# Altium footprint library Connector_Samtec_HLE_SMD.PcbLib: 290 footprints (part 3 of 24)
Each footprint in its own frame and in the unit in brackets; x right, y up, seen from the top. Pads: shape width x height; smd on the part's side, far side on the other; paste and mask are expansions set on the pad; w line width, h text height; cw(c..) or ccw(c..) is an arc to the next point about the centre after c.
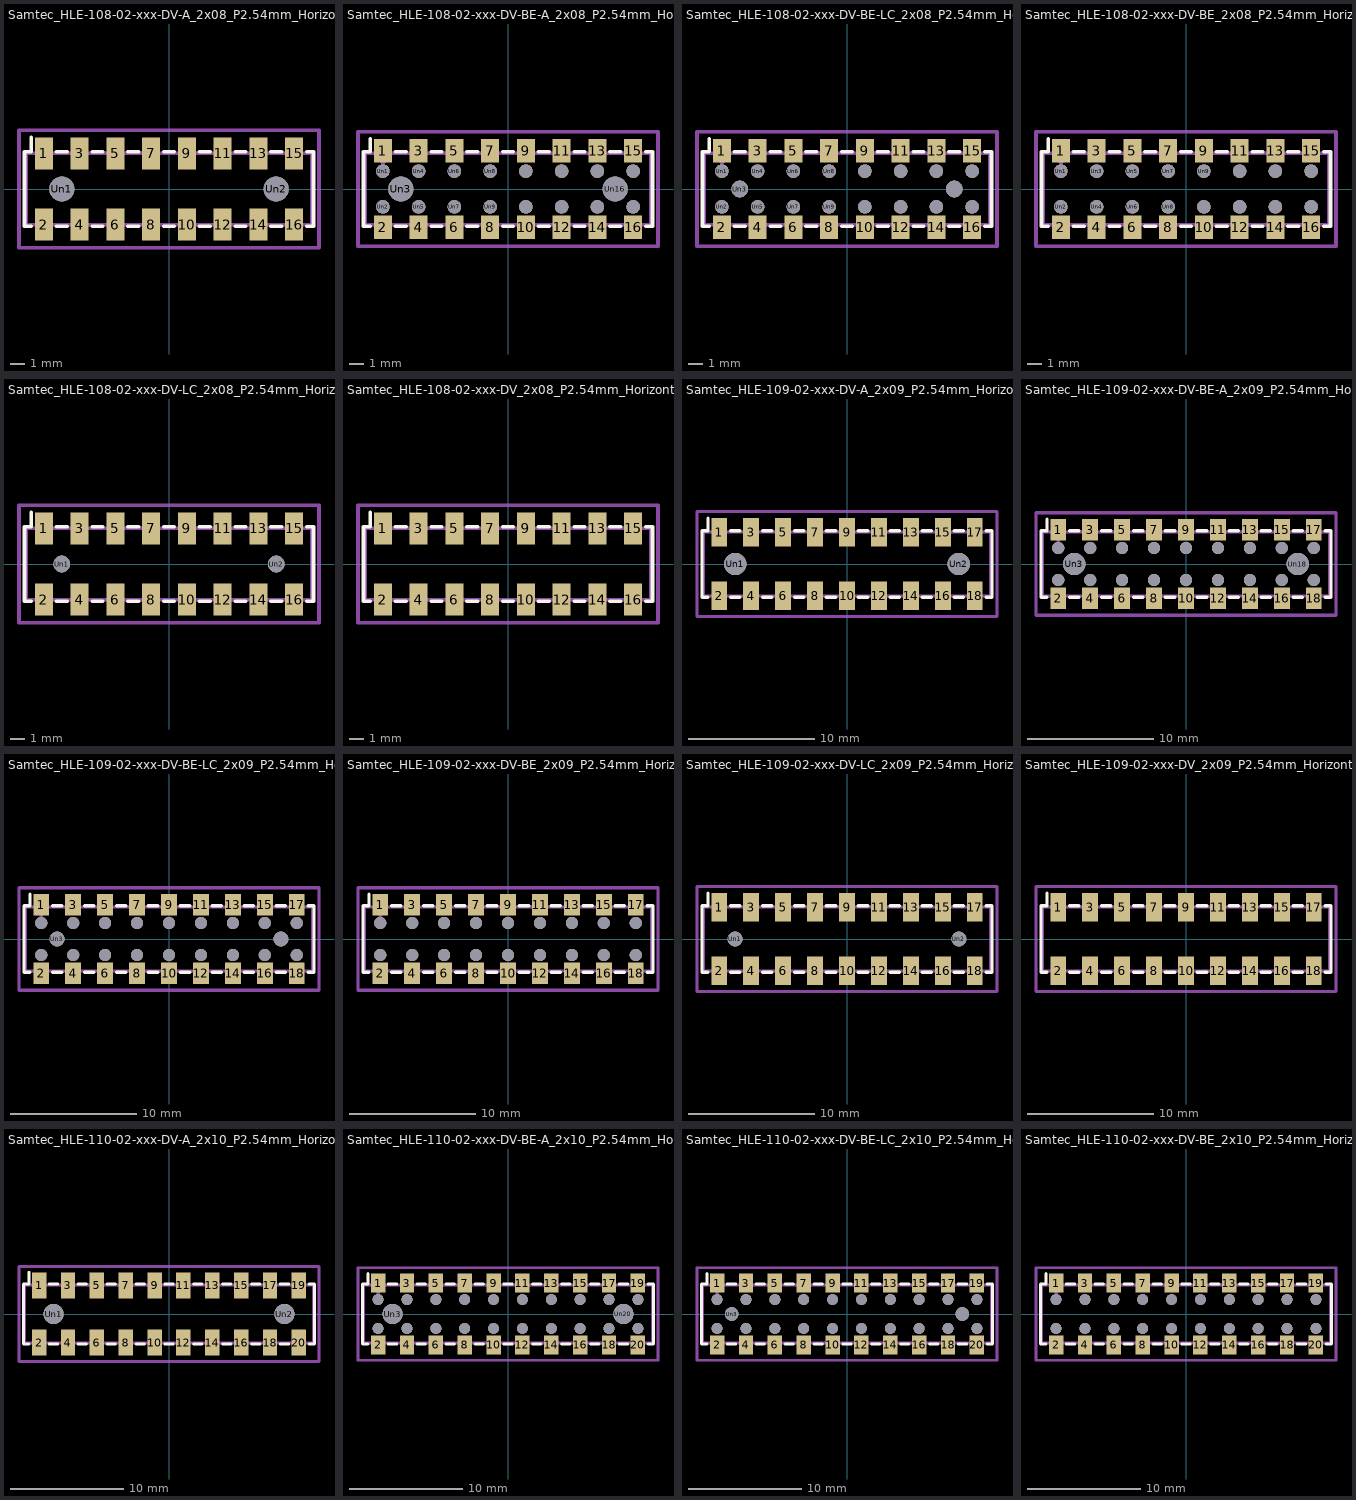
[diagram p2: the footprints below, top view; thin cyan lines are the x and y axes]

## Samtec_HLE-108-02-xxx-DV-A_2x08_P2.54mm_Horizontal [mm]
pads (18):
  rect 1.27x2.29 smd: 1(-8.89,2.525) 2(-8.89,-2.525) 3(-6.35,2.525) 4(-6.35,-2.525) 5(-3.81,2.525) 6(-3.81,-2.525) 7(-1.27,2.525) 8(-1.27,-2.525) 9(1.27,2.525) 10(1.27,-2.525) 11(3.81,2.525) 12(3.81,-2.525) 13(6.35,2.525) 14(6.35,-2.525) 15(8.89,2.525) 16(8.89,-2.525)
  round 1.78 hole 1.78: Un1(-7.62,0) Un2(7.62,0)
F.SilkS:
  lines w0.254: -9.785,-2.65 -10.27,-2.65 -10.27,2.65 -9.785,2.65 -9.785,3.67 ; -7.995,-2.65 -7.245,-2.65 ; -7.995,2.65 -7.245,2.65 ; -5.455,-2.65 -4.705,-2.65 ; -5.455,2.65 -4.705,2.65 ; -2.915,-2.65 -2.165,-2.65 ; -2.915,2.65 -2.165,2.65 ; -0.375,-2.65 0.375,-2.65 ; -0.375,2.65 0.375,2.65 ; 2.165,-2.65 2.915,-2.65 ; 2.165,2.65 2.915,2.65 ; 4.705,-2.65 5.455,-2.65 ; 4.705,2.65 5.455,2.65 ; 7.245,-2.65 7.995,-2.65 ; 7.245,2.65 7.995,2.65 ; 9.785,-2.65 10.27,-2.65 10.27,2.65 9.785,2.65
Top Assembly:
  lines w0.254: -9.39,2.54 -8.89,1.833 -8.39,2.54 ; -10.16,-2.54 10.16,-2.54 10.16,2.54 -10.16,2.54 -10.16,-2.54
  text "'.Designator'" at -4.047,-2.68 h1
Top Courtyard:
  lines w0.254: -10.66,-4.17 10.66,-4.17 10.66,4.17 -10.66,4.17 -10.66,-4.17
Top Designator:
  text ".Designator" at -7.618,-0.508 h1.52

## Samtec_HLE-108-02-xxx-DV-BE-A_2x08_P2.54mm_Horizontal [mm]
pads (34):
  rect 1.27x1.68 smd: 1(-8.89,2.72) 2(-8.89,-2.72) 3(-6.35,2.72) 4(-6.35,-2.72) 5(-3.81,2.72) 6(-3.81,-2.72) 7(-1.27,2.72) 8(-1.27,-2.72) 9(1.27,2.72) 10(1.27,-2.72) 11(3.81,2.72) 12(3.81,-2.72) 13(6.35,2.72) 14(6.35,-2.72) 15(8.89,2.72) 16(8.89,-2.72)
  round 0.97 hole 0.97: Un1(-8.89,1.27) Un2(-8.89,-1.27) Un4(-6.35,1.27) Un5(-6.35,-1.27) Un6(-3.81,1.27) Un7(-3.81,-1.27) Un8(-1.27,1.27) Un9(-1.27,-1.27) Un10(1.27,1.27) Un11(1.27,-1.27) Un12(3.81,1.27) Un13(3.81,-1.27) Un14(6.35,1.27) Un15(6.35,-1.27) Un17(8.89,1.27) Un18(8.89,-1.27)
  round 1.78 hole 1.78: Un3(-7.62,0) Un16(7.62,0)
F.SilkS:
  lines w0.254: -9.785,-2.65 -10.27,-2.65 -10.27,2.65 -9.785,2.65 -9.785,3.56 ; -7.995,-2.65 -7.245,-2.65 ; -7.995,2.65 -7.245,2.65 ; -5.455,-2.65 -4.705,-2.65 ; -5.455,2.65 -4.705,2.65 ; -2.915,-2.65 -2.165,-2.65 ; -2.915,2.65 -2.165,2.65 ; -0.375,-2.65 0.375,-2.65 ; -0.375,2.65 0.375,2.65 ; 2.165,-2.65 2.915,-2.65 ; 2.165,2.65 2.915,2.65 ; 4.705,-2.65 5.455,-2.65 ; 4.705,2.65 5.455,2.65 ; 7.245,-2.65 7.995,-2.65 ; 7.245,2.65 7.995,2.65 ; 9.785,-2.65 10.27,-2.65 10.27,2.65 9.785,2.65
Top Assembly:
  lines w0.254: -9.39,2.54 -8.89,1.833 -8.39,2.54 ; -10.16,-2.54 10.16,-2.54 10.16,2.54 -10.16,2.54 -10.16,-2.54
  text "'.Designator'" at -4.047,-2.68 h1
Top Courtyard:
  lines w0.254: -10.66,-4.07 10.66,-4.07 10.66,4.07 -10.66,4.07 -10.66,-4.07
Top Designator:
  text ".Designator" at -7.618,-0.508 h1.52

## Samtec_HLE-108-02-xxx-DV-BE-LC_2x08_P2.54mm_Horizontal [mm]
pads (34):
  rect 1.27x1.68 smd: 1(-8.89,2.72) 2(-8.89,-2.72) 3(-6.35,2.72) 4(-6.35,-2.72) 5(-3.81,2.72) 6(-3.81,-2.72) 7(-1.27,2.72) 8(-1.27,-2.72) 9(1.27,2.72) 10(1.27,-2.72) 11(3.81,2.72) 12(3.81,-2.72) 13(6.35,2.72) 14(6.35,-2.72) 15(8.89,2.72) 16(8.89,-2.72)
  round 0.97 hole 0.97: Un1(-8.89,1.27) Un2(-8.89,-1.27) Un4(-6.35,1.27) Un5(-6.35,-1.27) Un6(-3.81,1.27) Un7(-3.81,-1.27) Un8(-1.27,1.27) Un9(-1.27,-1.27) Un10(1.27,1.27) Un11(1.27,-1.27) Un12(3.81,1.27) Un13(3.81,-1.27) Un14(6.35,1.27) Un15(6.35,-1.27) Un17(8.89,1.27) Un18(8.89,-1.27)
  round 1.19 hole 1.19: Un3(-7.62,0) Un16(7.62,0)
F.SilkS:
  lines w0.254: -9.785,-2.65 -10.27,-2.65 -10.27,2.65 -9.785,2.65 -9.785,3.56 ; -7.995,-2.65 -7.245,-2.65 ; -7.995,2.65 -7.245,2.65 ; -5.455,-2.65 -4.705,-2.65 ; -5.455,2.65 -4.705,2.65 ; -2.915,-2.65 -2.165,-2.65 ; -2.915,2.65 -2.165,2.65 ; -0.375,-2.65 0.375,-2.65 ; -0.375,2.65 0.375,2.65 ; 2.165,-2.65 2.915,-2.65 ; 2.165,2.65 2.915,2.65 ; 4.705,-2.65 5.455,-2.65 ; 4.705,2.65 5.455,2.65 ; 7.245,-2.65 7.995,-2.65 ; 7.245,2.65 7.995,2.65 ; 9.785,-2.65 10.27,-2.65 10.27,2.65 9.785,2.65
Top Assembly:
  lines w0.254: -9.39,2.54 -8.89,1.833 -8.39,2.54 ; -10.16,-2.54 10.16,-2.54 10.16,2.54 -10.16,2.54 -10.16,-2.54
  text "'.Designator'" at -4.047,-2.68 h1
Top Courtyard:
  lines w0.254: -10.66,-4.07 10.66,-4.07 10.66,4.07 -10.66,4.07 -10.66,-4.07
Top Designator:
  text ".Designator" at -7.618,-0.508 h1.52

## Samtec_HLE-108-02-xxx-DV-BE_2x08_P2.54mm_Horizontal [mm]
pads (32):
  rect 1.27x1.68 smd: 1(-8.89,2.72) 2(-8.89,-2.72) 3(-6.35,2.72) 4(-6.35,-2.72) 5(-3.81,2.72) 6(-3.81,-2.72) 7(-1.27,2.72) 8(-1.27,-2.72) 9(1.27,2.72) 10(1.27,-2.72) 11(3.81,2.72) 12(3.81,-2.72) 13(6.35,2.72) 14(6.35,-2.72) 15(8.89,2.72) 16(8.89,-2.72)
  round 0.97 hole 0.97: Un1(-8.89,1.27) Un2(-8.89,-1.27) Un3(-6.35,1.27) Un4(-6.35,-1.27) Un5(-3.81,1.27) Un6(-3.81,-1.27) Un7(-1.27,1.27) Un8(-1.27,-1.27) Un9(1.27,1.27) Un10(1.27,-1.27) Un11(3.81,1.27) Un12(3.81,-1.27) Un13(6.35,1.27) Un14(6.35,-1.27) Un15(8.89,1.27) Un16(8.89,-1.27)
F.SilkS:
  lines w0.254: -9.785,-2.65 -10.27,-2.65 -10.27,2.65 -9.785,2.65 -9.785,3.56 ; -7.995,-2.65 -7.245,-2.65 ; -7.995,2.65 -7.245,2.65 ; -5.455,-2.65 -4.705,-2.65 ; -5.455,2.65 -4.705,2.65 ; -2.915,-2.65 -2.165,-2.65 ; -2.915,2.65 -2.165,2.65 ; -0.375,-2.65 0.375,-2.65 ; -0.375,2.65 0.375,2.65 ; 2.165,-2.65 2.915,-2.65 ; 2.165,2.65 2.915,2.65 ; 4.705,-2.65 5.455,-2.65 ; 4.705,2.65 5.455,2.65 ; 7.245,-2.65 7.995,-2.65 ; 7.245,2.65 7.995,2.65 ; 9.785,-2.65 10.27,-2.65 10.27,2.65 9.785,2.65
Top Assembly:
  lines w0.254: -9.39,2.54 -8.89,1.833 -8.39,2.54 ; -10.16,-2.54 10.16,-2.54 10.16,2.54 -10.16,2.54 -10.16,-2.54
  text "'.Designator'" at -4.047,-2.68 h1
Top Courtyard:
  lines w0.254: -10.66,-4.07 10.66,-4.07 10.66,4.07 -10.66,4.07 -10.66,-4.07
Top Designator:
  text ".Designator" at -7.618,-0.508 h1.52

## Samtec_HLE-108-02-xxx-DV-LC_2x08_P2.54mm_Horizontal [mm]
pads (18):
  rect 1.27x2.29 smd: 1(-8.89,2.525) 2(-8.89,-2.525) 3(-6.35,2.525) 4(-6.35,-2.525) 5(-3.81,2.525) 6(-3.81,-2.525) 7(-1.27,2.525) 8(-1.27,-2.525) 9(1.27,2.525) 10(1.27,-2.525) 11(3.81,2.525) 12(3.81,-2.525) 13(6.35,2.525) 14(6.35,-2.525) 15(8.89,2.525) 16(8.89,-2.525)
  round 1.19 hole 1.19: Un1(-7.62,0) Un2(7.62,0)
F.SilkS:
  lines w0.254: -9.785,-2.65 -10.27,-2.65 -10.27,2.65 -9.785,2.65 -9.785,3.67 ; -7.995,-2.65 -7.245,-2.65 ; -7.995,2.65 -7.245,2.65 ; -5.455,-2.65 -4.705,-2.65 ; -5.455,2.65 -4.705,2.65 ; -2.915,-2.65 -2.165,-2.65 ; -2.915,2.65 -2.165,2.65 ; -0.375,-2.65 0.375,-2.65 ; -0.375,2.65 0.375,2.65 ; 2.165,-2.65 2.915,-2.65 ; 2.165,2.65 2.915,2.65 ; 4.705,-2.65 5.455,-2.65 ; 4.705,2.65 5.455,2.65 ; 7.245,-2.65 7.995,-2.65 ; 7.245,2.65 7.995,2.65 ; 9.785,-2.65 10.27,-2.65 10.27,2.65 9.785,2.65
Top Assembly:
  lines w0.254: -9.39,2.54 -8.89,1.833 -8.39,2.54 ; -10.16,-2.54 10.16,-2.54 10.16,2.54 -10.16,2.54 -10.16,-2.54
  text "'.Designator'" at -4.047,-2.68 h1
Top Courtyard:
  lines w0.254: -10.66,-4.17 10.66,-4.17 10.66,4.17 -10.66,4.17 -10.66,-4.17
Top Designator:
  text ".Designator" at -7.618,-0.508 h1.52

## Samtec_HLE-108-02-xxx-DV_2x08_P2.54mm_Horizontal [mm]
pads (16):
  rect 1.27x2.29 smd: 1(-8.89,2.525) 2(-8.89,-2.525) 3(-6.35,2.525) 4(-6.35,-2.525) 5(-3.81,2.525) 6(-3.81,-2.525) 7(-1.27,2.525) 8(-1.27,-2.525) 9(1.27,2.525) 10(1.27,-2.525) 11(3.81,2.525) 12(3.81,-2.525) 13(6.35,2.525) 14(6.35,-2.525) 15(8.89,2.525) 16(8.89,-2.525)
F.SilkS:
  lines w0.254: -9.785,-2.65 -10.27,-2.65 -10.27,2.65 -9.785,2.65 -9.785,3.67 ; -7.995,-2.65 -7.245,-2.65 ; -7.995,2.65 -7.245,2.65 ; -5.455,-2.65 -4.705,-2.65 ; -5.455,2.65 -4.705,2.65 ; -2.915,-2.65 -2.165,-2.65 ; -2.915,2.65 -2.165,2.65 ; -0.375,-2.65 0.375,-2.65 ; -0.375,2.65 0.375,2.65 ; 2.165,-2.65 2.915,-2.65 ; 2.165,2.65 2.915,2.65 ; 4.705,-2.65 5.455,-2.65 ; 4.705,2.65 5.455,2.65 ; 7.245,-2.65 7.995,-2.65 ; 7.245,2.65 7.995,2.65 ; 9.785,-2.65 10.27,-2.65 10.27,2.65 9.785,2.65
Top Assembly:
  lines w0.254: -9.39,2.54 -8.89,1.833 -8.39,2.54 ; -10.16,-2.54 10.16,-2.54 10.16,2.54 -10.16,2.54 -10.16,-2.54
  text "'.Designator'" at -4.047,-2.68 h1
Top Courtyard:
  lines w0.254: -10.66,-4.17 10.66,-4.17 10.66,4.17 -10.66,4.17 -10.66,-4.17
Top Designator:
  text ".Designator" at -7.618,-0.508 h1.52

## Samtec_HLE-109-02-xxx-DV-A_2x09_P2.54mm_Horizontal [mm]
pads (20):
  rect 1.27x2.29 smd: 1(-10.16,2.525) 2(-10.16,-2.525) 3(-7.62,2.525) 4(-7.62,-2.525) 5(-5.08,2.525) 6(-5.08,-2.525) 7(-2.54,2.525) 8(-2.54,-2.525) 9(0,2.525) 10(0,-2.525) 11(2.54,2.525) 12(2.54,-2.525) 13(5.08,2.525) 14(5.08,-2.525) 15(7.62,2.525) 16(7.62,-2.525) 17(10.16,2.525) 18(10.16,-2.525)
  round 1.78 hole 1.78: Un1(-8.89,0) Un2(8.89,0)
F.SilkS:
  lines w0.254: -11.055,-2.65 -11.54,-2.65 -11.54,2.65 -11.055,2.65 -11.055,3.67 ; -9.265,-2.65 -8.515,-2.65 ; -9.265,2.65 -8.515,2.65 ; -6.725,-2.65 -5.975,-2.65 ; -6.725,2.65 -5.975,2.65 ; -4.185,-2.65 -3.435,-2.65 ; -4.185,2.65 -3.435,2.65 ; -1.645,-2.65 -0.895,-2.65 ; -1.645,2.65 -0.895,2.65 ; 0.895,-2.65 1.645,-2.65 ; 0.895,2.65 1.645,2.65 ; 3.435,-2.65 4.185,-2.65 ; 3.435,2.65 4.185,2.65 ; 5.975,-2.65 6.725,-2.65 ; 5.975,2.65 6.725,2.65 ; 8.515,-2.65 9.265,-2.65 ; 8.515,2.65 9.265,2.65 ; 11.055,-2.65 11.54,-2.65 11.54,2.65 11.055,2.65
Top Assembly:
  lines w0.254: -10.66,2.54 -10.16,1.833 -9.66,2.54 ; -11.43,-2.54 11.43,-2.54 11.43,2.54 -11.43,2.54 -11.43,-2.54
  text "'.Designator'" at -4.047,-2.68 h1
Top Courtyard:
  lines w0.254: -11.93,-4.17 11.93,-4.17 11.93,4.17 -11.93,4.17 -11.93,-4.17
Top Designator:
  text ".Designator" at -7.618,-0.508 h1.52

## Samtec_HLE-109-02-xxx-DV-BE-A_2x09_P2.54mm_Horizontal [mm]
pads (38):
  rect 1.27x1.68 smd: 1(-10.16,2.72) 2(-10.16,-2.72) 3(-7.62,2.72) 4(-7.62,-2.72) 5(-5.08,2.72) 6(-5.08,-2.72) 7(-2.54,2.72) 8(-2.54,-2.72) 9(0,2.72) 10(0,-2.72) 11(2.54,2.72) 12(2.54,-2.72) 13(5.08,2.72) 14(5.08,-2.72) 15(7.62,2.72) 16(7.62,-2.72) 17(10.16,2.72) 18(10.16,-2.72)
  round 0.97 hole 0.97: Un1(-10.16,1.27) Un2(-10.16,-1.27) Un4(-7.62,1.27) Un5(-7.62,-1.27) Un6(-5.08,1.27) Un7(-5.08,-1.27) Un8(-2.54,1.27) Un9(-2.54,-1.27) Un10(0,1.27) Un11(0,-1.27) Un12(2.54,1.27) Un13(2.54,-1.27) Un14(5.08,1.27) Un15(5.08,-1.27) Un16(7.62,1.27) Un17(7.62,-1.27) Un19(10.16,1.27) Un20(10.16,-1.27)
  round 1.78 hole 1.78: Un3(-8.89,0) Un18(8.89,0)
F.SilkS:
  lines w0.254: -11.055,-2.65 -11.54,-2.65 -11.54,2.65 -11.055,2.65 -11.055,3.56 ; -9.265,-2.65 -8.515,-2.65 ; -9.265,2.65 -8.515,2.65 ; -6.725,-2.65 -5.975,-2.65 ; -6.725,2.65 -5.975,2.65 ; -4.185,-2.65 -3.435,-2.65 ; -4.185,2.65 -3.435,2.65 ; -1.645,-2.65 -0.895,-2.65 ; -1.645,2.65 -0.895,2.65 ; 0.895,-2.65 1.645,-2.65 ; 0.895,2.65 1.645,2.65 ; 3.435,-2.65 4.185,-2.65 ; 3.435,2.65 4.185,2.65 ; 5.975,-2.65 6.725,-2.65 ; 5.975,2.65 6.725,2.65 ; 8.515,-2.65 9.265,-2.65 ; 8.515,2.65 9.265,2.65 ; 11.055,-2.65 11.54,-2.65 11.54,2.65 11.055,2.65
Top Assembly:
  lines w0.254: -10.66,2.54 -10.16,1.833 -9.66,2.54 ; -11.43,-2.54 11.43,-2.54 11.43,2.54 -11.43,2.54 -11.43,-2.54
  text "'.Designator'" at -4.047,-2.68 h1
Top Courtyard:
  lines w0.254: -11.93,-4.07 11.93,-4.07 11.93,4.07 -11.93,4.07 -11.93,-4.07
Top Designator:
  text ".Designator" at -7.618,-0.508 h1.52

## Samtec_HLE-109-02-xxx-DV-BE-LC_2x09_P2.54mm_Horizontal [mm]
pads (38):
  rect 1.27x1.68 smd: 1(-10.16,2.72) 2(-10.16,-2.72) 3(-7.62,2.72) 4(-7.62,-2.72) 5(-5.08,2.72) 6(-5.08,-2.72) 7(-2.54,2.72) 8(-2.54,-2.72) 9(0,2.72) 10(0,-2.72) 11(2.54,2.72) 12(2.54,-2.72) 13(5.08,2.72) 14(5.08,-2.72) 15(7.62,2.72) 16(7.62,-2.72) 17(10.16,2.72) 18(10.16,-2.72)
  round 0.97 hole 0.97: Un1(-10.16,1.27) Un2(-10.16,-1.27) Un4(-7.62,1.27) Un5(-7.62,-1.27) Un6(-5.08,1.27) Un7(-5.08,-1.27) Un8(-2.54,1.27) Un9(-2.54,-1.27) Un10(0,1.27) Un11(0,-1.27) Un12(2.54,1.27) Un13(2.54,-1.27) Un14(5.08,1.27) Un15(5.08,-1.27) Un16(7.62,1.27) Un17(7.62,-1.27) Un19(10.16,1.27) Un20(10.16,-1.27)
  round 1.19 hole 1.19: Un3(-8.89,0) Un18(8.89,0)
F.SilkS:
  lines w0.254: -11.055,-2.65 -11.54,-2.65 -11.54,2.65 -11.055,2.65 -11.055,3.56 ; -9.265,-2.65 -8.515,-2.65 ; -9.265,2.65 -8.515,2.65 ; -6.725,-2.65 -5.975,-2.65 ; -6.725,2.65 -5.975,2.65 ; -4.185,-2.65 -3.435,-2.65 ; -4.185,2.65 -3.435,2.65 ; -1.645,-2.65 -0.895,-2.65 ; -1.645,2.65 -0.895,2.65 ; 0.895,-2.65 1.645,-2.65 ; 0.895,2.65 1.645,2.65 ; 3.435,-2.65 4.185,-2.65 ; 3.435,2.65 4.185,2.65 ; 5.975,-2.65 6.725,-2.65 ; 5.975,2.65 6.725,2.65 ; 8.515,-2.65 9.265,-2.65 ; 8.515,2.65 9.265,2.65 ; 11.055,-2.65 11.54,-2.65 11.54,2.65 11.055,2.65
Top Assembly:
  lines w0.254: -10.66,2.54 -10.16,1.833 -9.66,2.54 ; -11.43,-2.54 11.43,-2.54 11.43,2.54 -11.43,2.54 -11.43,-2.54
  text "'.Designator'" at -4.047,-2.68 h1
Top Courtyard:
  lines w0.254: -11.93,-4.07 11.93,-4.07 11.93,4.07 -11.93,4.07 -11.93,-4.07
Top Designator:
  text ".Designator" at -7.618,-0.508 h1.52

## Samtec_HLE-109-02-xxx-DV-BE_2x09_P2.54mm_Horizontal [mm]
pads (36):
  rect 1.27x1.68 smd: 1(-10.16,2.72) 2(-10.16,-2.72) 3(-7.62,2.72) 4(-7.62,-2.72) 5(-5.08,2.72) 6(-5.08,-2.72) 7(-2.54,2.72) 8(-2.54,-2.72) 9(0,2.72) 10(0,-2.72) 11(2.54,2.72) 12(2.54,-2.72) 13(5.08,2.72) 14(5.08,-2.72) 15(7.62,2.72) 16(7.62,-2.72) 17(10.16,2.72) 18(10.16,-2.72)
  round 0.97 hole 0.97: Un1(-10.16,1.27) Un2(-10.16,-1.27) Un3(-7.62,1.27) Un4(-7.62,-1.27) Un5(-5.08,1.27) Un6(-5.08,-1.27) Un7(-2.54,1.27) Un8(-2.54,-1.27) Un9(0,1.27) Un10(0,-1.27) Un11(2.54,1.27) Un12(2.54,-1.27) Un13(5.08,1.27) Un14(5.08,-1.27) Un15(7.62,1.27) Un16(7.62,-1.27) Un17(10.16,1.27) Un18(10.16,-1.27)
F.SilkS:
  lines w0.254: -11.055,-2.65 -11.54,-2.65 -11.54,2.65 -11.055,2.65 -11.055,3.56 ; -9.265,-2.65 -8.515,-2.65 ; -9.265,2.65 -8.515,2.65 ; -6.725,-2.65 -5.975,-2.65 ; -6.725,2.65 -5.975,2.65 ; -4.185,-2.65 -3.435,-2.65 ; -4.185,2.65 -3.435,2.65 ; -1.645,-2.65 -0.895,-2.65 ; -1.645,2.65 -0.895,2.65 ; 0.895,-2.65 1.645,-2.65 ; 0.895,2.65 1.645,2.65 ; 3.435,-2.65 4.185,-2.65 ; 3.435,2.65 4.185,2.65 ; 5.975,-2.65 6.725,-2.65 ; 5.975,2.65 6.725,2.65 ; 8.515,-2.65 9.265,-2.65 ; 8.515,2.65 9.265,2.65 ; 11.055,-2.65 11.54,-2.65 11.54,2.65 11.055,2.65
Top Assembly:
  lines w0.254: -10.66,2.54 -10.16,1.833 -9.66,2.54 ; -11.43,-2.54 11.43,-2.54 11.43,2.54 -11.43,2.54 -11.43,-2.54
  text "'.Designator'" at -4.047,-2.68 h1
Top Courtyard:
  lines w0.254: -11.93,-4.07 11.93,-4.07 11.93,4.07 -11.93,4.07 -11.93,-4.07
Top Designator:
  text ".Designator" at -7.618,-0.508 h1.52

## Samtec_HLE-109-02-xxx-DV-LC_2x09_P2.54mm_Horizontal [mm]
pads (20):
  rect 1.27x2.29 smd: 1(-10.16,2.525) 2(-10.16,-2.525) 3(-7.62,2.525) 4(-7.62,-2.525) 5(-5.08,2.525) 6(-5.08,-2.525) 7(-2.54,2.525) 8(-2.54,-2.525) 9(0,2.525) 10(0,-2.525) 11(2.54,2.525) 12(2.54,-2.525) 13(5.08,2.525) 14(5.08,-2.525) 15(7.62,2.525) 16(7.62,-2.525) 17(10.16,2.525) 18(10.16,-2.525)
  round 1.19 hole 1.19: Un1(-8.89,0) Un2(8.89,0)
F.SilkS:
  lines w0.254: -11.055,-2.65 -11.54,-2.65 -11.54,2.65 -11.055,2.65 -11.055,3.67 ; -9.265,-2.65 -8.515,-2.65 ; -9.265,2.65 -8.515,2.65 ; -6.725,-2.65 -5.975,-2.65 ; -6.725,2.65 -5.975,2.65 ; -4.185,-2.65 -3.435,-2.65 ; -4.185,2.65 -3.435,2.65 ; -1.645,-2.65 -0.895,-2.65 ; -1.645,2.65 -0.895,2.65 ; 0.895,-2.65 1.645,-2.65 ; 0.895,2.65 1.645,2.65 ; 3.435,-2.65 4.185,-2.65 ; 3.435,2.65 4.185,2.65 ; 5.975,-2.65 6.725,-2.65 ; 5.975,2.65 6.725,2.65 ; 8.515,-2.65 9.265,-2.65 ; 8.515,2.65 9.265,2.65 ; 11.055,-2.65 11.54,-2.65 11.54,2.65 11.055,2.65
Top Assembly:
  lines w0.254: -10.66,2.54 -10.16,1.833 -9.66,2.54 ; -11.43,-2.54 11.43,-2.54 11.43,2.54 -11.43,2.54 -11.43,-2.54
  text "'.Designator'" at -4.047,-2.68 h1
Top Courtyard:
  lines w0.254: -11.93,-4.17 11.93,-4.17 11.93,4.17 -11.93,4.17 -11.93,-4.17
Top Designator:
  text ".Designator" at -7.618,-0.508 h1.52

## Samtec_HLE-109-02-xxx-DV_2x09_P2.54mm_Horizontal [mm]
pads (18):
  rect 1.27x2.29 smd: 1(-10.16,2.525) 2(-10.16,-2.525) 3(-7.62,2.525) 4(-7.62,-2.525) 5(-5.08,2.525) 6(-5.08,-2.525) 7(-2.54,2.525) 8(-2.54,-2.525) 9(0,2.525) 10(0,-2.525) 11(2.54,2.525) 12(2.54,-2.525) 13(5.08,2.525) 14(5.08,-2.525) 15(7.62,2.525) 16(7.62,-2.525) 17(10.16,2.525) 18(10.16,-2.525)
F.SilkS:
  lines w0.254: -11.055,-2.65 -11.54,-2.65 -11.54,2.65 -11.055,2.65 -11.055,3.67 ; -9.265,-2.65 -8.515,-2.65 ; -9.265,2.65 -8.515,2.65 ; -6.725,-2.65 -5.975,-2.65 ; -6.725,2.65 -5.975,2.65 ; -4.185,-2.65 -3.435,-2.65 ; -4.185,2.65 -3.435,2.65 ; -1.645,-2.65 -0.895,-2.65 ; -1.645,2.65 -0.895,2.65 ; 0.895,-2.65 1.645,-2.65 ; 0.895,2.65 1.645,2.65 ; 3.435,-2.65 4.185,-2.65 ; 3.435,2.65 4.185,2.65 ; 5.975,-2.65 6.725,-2.65 ; 5.975,2.65 6.725,2.65 ; 8.515,-2.65 9.265,-2.65 ; 8.515,2.65 9.265,2.65 ; 11.055,-2.65 11.54,-2.65 11.54,2.65 11.055,2.65
Top Assembly:
  lines w0.254: -10.66,2.54 -10.16,1.833 -9.66,2.54 ; -11.43,-2.54 11.43,-2.54 11.43,2.54 -11.43,2.54 -11.43,-2.54
  text "'.Designator'" at -4.047,-2.68 h1
Top Courtyard:
  lines w0.254: -11.93,-4.17 11.93,-4.17 11.93,4.17 -11.93,4.17 -11.93,-4.17
Top Designator:
  text ".Designator" at -7.618,-0.508 h1.52

## Samtec_HLE-110-02-xxx-DV-A_2x10_P2.54mm_Horizontal [mm]
pads (22):
  rect 1.27x2.29 smd: 1(-11.43,2.525) 2(-11.43,-2.525) 3(-8.89,2.525) 4(-8.89,-2.525) 5(-6.35,2.525) 6(-6.35,-2.525) 7(-3.81,2.525) 8(-3.81,-2.525) 9(-1.27,2.525) 10(-1.27,-2.525) 11(1.27,2.525) 12(1.27,-2.525) 13(3.81,2.525) 14(3.81,-2.525) 15(6.35,2.525) 16(6.35,-2.525) 17(8.89,2.525) 18(8.89,-2.525) 19(11.43,2.525) 20(11.43,-2.525)
  round 1.78 hole 1.78: Un1(-10.16,0) Un2(10.16,0)
F.SilkS:
  lines w0.254: -12.325,-2.65 -12.81,-2.65 -12.81,2.65 -12.325,2.65 -12.325,3.67 ; -10.535,-2.65 -9.785,-2.65 ; -10.535,2.65 -9.785,2.65 ; -7.995,-2.65 -7.245,-2.65 ; -7.995,2.65 -7.245,2.65 ; -5.455,-2.65 -4.705,-2.65 ; -5.455,2.65 -4.705,2.65 ; -2.915,-2.65 -2.165,-2.65 ; -2.915,2.65 -2.165,2.65 ; -0.375,-2.65 0.375,-2.65 ; -0.375,2.65 0.375,2.65 ; 2.165,-2.65 2.915,-2.65 ; 2.165,2.65 2.915,2.65 ; 4.705,-2.65 5.455,-2.65 ; 4.705,2.65 5.455,2.65 ; 7.245,-2.65 7.995,-2.65 ; 7.245,2.65 7.995,2.65 ; 9.785,-2.65 10.535,-2.65 ; 9.785,2.65 10.535,2.65 ; 12.325,-2.65 12.81,-2.65 12.81,2.65 12.325,2.65
Top Assembly:
  lines w0.254: -11.93,2.54 -11.43,1.833 -10.93,2.54 ; -12.7,-2.54 12.7,-2.54 12.7,2.54 -12.7,2.54 -12.7,-2.54
  text "'.Designator'" at -4.047,-2.68 h1
Top Courtyard:
  lines w0.254: -13.2,-4.17 13.2,-4.17 13.2,4.17 -13.2,4.17 -13.2,-4.17
Top Designator:
  text ".Designator" at -7.618,-0.508 h1.52

## Samtec_HLE-110-02-xxx-DV-BE-A_2x10_P2.54mm_Horizontal [mm]
pads (42):
  rect 1.27x1.68 smd: 1(-11.43,2.72) 2(-11.43,-2.72) 3(-8.89,2.72) 4(-8.89,-2.72) 5(-6.35,2.72) 6(-6.35,-2.72) 7(-3.81,2.72) 8(-3.81,-2.72) 9(-1.27,2.72) 10(-1.27,-2.72) 11(1.27,2.72) 12(1.27,-2.72) 13(3.81,2.72) 14(3.81,-2.72) 15(6.35,2.72) 16(6.35,-2.72) 17(8.89,2.72) 18(8.89,-2.72) 19(11.43,2.72) 20(11.43,-2.72)
  round 0.97 hole 0.97: Un1(-11.43,1.27) Un2(-11.43,-1.27) Un4(-8.89,1.27) Un5(-8.89,-1.27) Un6(-6.35,1.27) Un7(-6.35,-1.27) Un8(-3.81,1.27) Un9(-3.81,-1.27) Un10(-1.27,1.27) Un11(-1.27,-1.27) Un12(1.27,1.27) Un13(1.27,-1.27) Un14(3.81,1.27) Un15(3.81,-1.27) Un16(6.35,1.27) Un17(6.35,-1.27) Un18(8.89,1.27) Un19(8.89,-1.27) Un21(11.43,1.27) Un22(11.43,-1.27)
  round 1.78 hole 1.78: Un3(-10.16,0) Un20(10.16,0)
F.SilkS:
  lines w0.254: -12.325,-2.65 -12.81,-2.65 -12.81,2.65 -12.325,2.65 -12.325,3.56 ; -10.535,-2.65 -9.785,-2.65 ; -10.535,2.65 -9.785,2.65 ; -7.995,-2.65 -7.245,-2.65 ; -7.995,2.65 -7.245,2.65 ; -5.455,-2.65 -4.705,-2.65 ; -5.455,2.65 -4.705,2.65 ; -2.915,-2.65 -2.165,-2.65 ; -2.915,2.65 -2.165,2.65 ; -0.375,-2.65 0.375,-2.65 ; -0.375,2.65 0.375,2.65 ; 2.165,-2.65 2.915,-2.65 ; 2.165,2.65 2.915,2.65 ; 4.705,-2.65 5.455,-2.65 ; 4.705,2.65 5.455,2.65 ; 7.245,-2.65 7.995,-2.65 ; 7.245,2.65 7.995,2.65 ; 9.785,-2.65 10.535,-2.65 ; 9.785,2.65 10.535,2.65 ; 12.325,-2.65 12.81,-2.65 12.81,2.65 12.325,2.65
Top Assembly:
  lines w0.254: -11.93,2.54 -11.43,1.833 -10.93,2.54 ; -12.7,-2.54 12.7,-2.54 12.7,2.54 -12.7,2.54 -12.7,-2.54
  text "'.Designator'" at -4.047,-2.68 h1
Top Courtyard:
  lines w0.254: -13.2,-4.07 13.2,-4.07 13.2,4.07 -13.2,4.07 -13.2,-4.07
Top Designator:
  text ".Designator" at -7.618,-0.508 h1.52

## Samtec_HLE-110-02-xxx-DV-BE-LC_2x10_P2.54mm_Horizontal [mm]
pads (42):
  rect 1.27x1.68 smd: 1(-11.43,2.72) 2(-11.43,-2.72) 3(-8.89,2.72) 4(-8.89,-2.72) 5(-6.35,2.72) 6(-6.35,-2.72) 7(-3.81,2.72) 8(-3.81,-2.72) 9(-1.27,2.72) 10(-1.27,-2.72) 11(1.27,2.72) 12(1.27,-2.72) 13(3.81,2.72) 14(3.81,-2.72) 15(6.35,2.72) 16(6.35,-2.72) 17(8.89,2.72) 18(8.89,-2.72) 19(11.43,2.72) 20(11.43,-2.72)
  round 0.97 hole 0.97: Un1(-11.43,1.27) Un2(-11.43,-1.27) Un4(-8.89,1.27) Un5(-8.89,-1.27) Un6(-6.35,1.27) Un7(-6.35,-1.27) Un8(-3.81,1.27) Un9(-3.81,-1.27) Un10(-1.27,1.27) Un11(-1.27,-1.27) Un12(1.27,1.27) Un13(1.27,-1.27) Un14(3.81,1.27) Un15(3.81,-1.27) Un16(6.35,1.27) Un17(6.35,-1.27) Un18(8.89,1.27) Un19(8.89,-1.27) Un21(11.43,1.27) Un22(11.43,-1.27)
  round 1.19 hole 1.19: Un3(-10.16,0) Un20(10.16,0)
F.SilkS:
  lines w0.254: -12.325,-2.65 -12.81,-2.65 -12.81,2.65 -12.325,2.65 -12.325,3.56 ; -10.535,-2.65 -9.785,-2.65 ; -10.535,2.65 -9.785,2.65 ; -7.995,-2.65 -7.245,-2.65 ; -7.995,2.65 -7.245,2.65 ; -5.455,-2.65 -4.705,-2.65 ; -5.455,2.65 -4.705,2.65 ; -2.915,-2.65 -2.165,-2.65 ; -2.915,2.65 -2.165,2.65 ; -0.375,-2.65 0.375,-2.65 ; -0.375,2.65 0.375,2.65 ; 2.165,-2.65 2.915,-2.65 ; 2.165,2.65 2.915,2.65 ; 4.705,-2.65 5.455,-2.65 ; 4.705,2.65 5.455,2.65 ; 7.245,-2.65 7.995,-2.65 ; 7.245,2.65 7.995,2.65 ; 9.785,-2.65 10.535,-2.65 ; 9.785,2.65 10.535,2.65 ; 12.325,-2.65 12.81,-2.65 12.81,2.65 12.325,2.65
Top Assembly:
  lines w0.254: -11.93,2.54 -11.43,1.833 -10.93,2.54 ; -12.7,-2.54 12.7,-2.54 12.7,2.54 -12.7,2.54 -12.7,-2.54
  text "'.Designator'" at -4.047,-2.68 h1
Top Courtyard:
  lines w0.254: -13.2,-4.07 13.2,-4.07 13.2,4.07 -13.2,4.07 -13.2,-4.07
Top Designator:
  text ".Designator" at -7.618,-0.508 h1.52

## Samtec_HLE-110-02-xxx-DV-BE_2x10_P2.54mm_Horizontal [mm]
pads (40):
  rect 1.27x1.68 smd: 1(-11.43,2.72) 2(-11.43,-2.72) 3(-8.89,2.72) 4(-8.89,-2.72) 5(-6.35,2.72) 6(-6.35,-2.72) 7(-3.81,2.72) 8(-3.81,-2.72) 9(-1.27,2.72) 10(-1.27,-2.72) 11(1.27,2.72) 12(1.27,-2.72) 13(3.81,2.72) 14(3.81,-2.72) 15(6.35,2.72) 16(6.35,-2.72) 17(8.89,2.72) 18(8.89,-2.72) 19(11.43,2.72) 20(11.43,-2.72)
  round 0.97 hole 0.97: Un1(-11.43,1.27) Un2(-11.43,-1.27) Un3(-8.89,1.27) Un4(-8.89,-1.27) Un5(-6.35,1.27) Un6(-6.35,-1.27) Un7(-3.81,1.27) Un8(-3.81,-1.27) Un9(-1.27,1.27) Un10(-1.27,-1.27) Un11(1.27,1.27) Un12(1.27,-1.27) Un13(3.81,1.27) Un14(3.81,-1.27) Un15(6.35,1.27) Un16(6.35,-1.27) Un17(8.89,1.27) Un18(8.89,-1.27) Un19(11.43,1.27) Un20(11.43,-1.27)
F.SilkS:
  lines w0.254: -12.325,-2.65 -12.81,-2.65 -12.81,2.65 -12.325,2.65 -12.325,3.56 ; -10.535,-2.65 -9.785,-2.65 ; -10.535,2.65 -9.785,2.65 ; -7.995,-2.65 -7.245,-2.65 ; -7.995,2.65 -7.245,2.65 ; -5.455,-2.65 -4.705,-2.65 ; -5.455,2.65 -4.705,2.65 ; -2.915,-2.65 -2.165,-2.65 ; -2.915,2.65 -2.165,2.65 ; -0.375,-2.65 0.375,-2.65 ; -0.375,2.65 0.375,2.65 ; 2.165,-2.65 2.915,-2.65 ; 2.165,2.65 2.915,2.65 ; 4.705,-2.65 5.455,-2.65 ; 4.705,2.65 5.455,2.65 ; 7.245,-2.65 7.995,-2.65 ; 7.245,2.65 7.995,2.65 ; 9.785,-2.65 10.535,-2.65 ; 9.785,2.65 10.535,2.65 ; 12.325,-2.65 12.81,-2.65 12.81,2.65 12.325,2.65
Top Assembly:
  lines w0.254: -11.93,2.54 -11.43,1.833 -10.93,2.54 ; -12.7,-2.54 12.7,-2.54 12.7,2.54 -12.7,2.54 -12.7,-2.54
  text "'.Designator'" at -4.047,-2.68 h1
Top Courtyard:
  lines w0.254: -13.2,-4.07 13.2,-4.07 13.2,4.07 -13.2,4.07 -13.2,-4.07
Top Designator:
  text ".Designator" at -7.618,-0.508 h1.52